# EAGLE library part 7414 (library Optical_Spark_Parts)
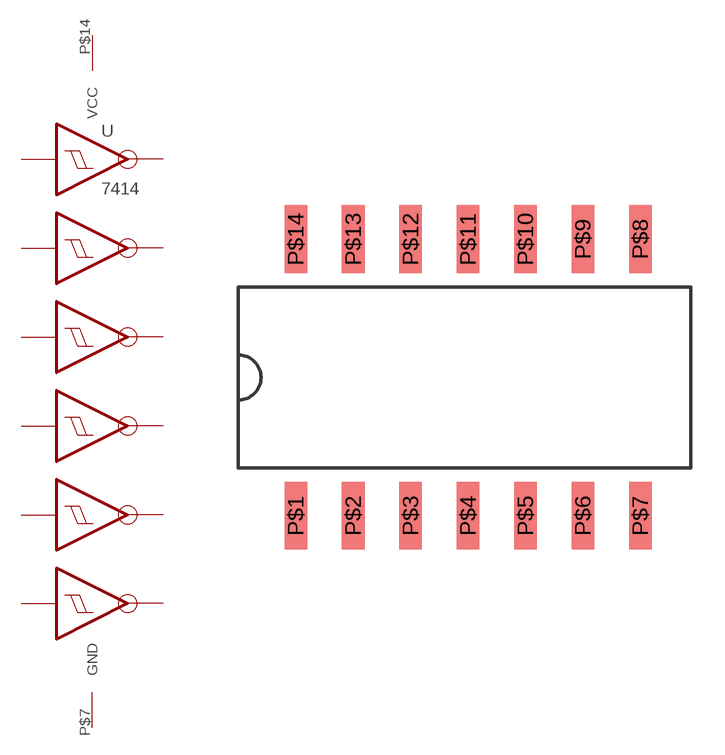
[diagram p0: symbol with the pads of DIP14_SMD; footprint DIP14_SMD]

Designator prefix -

## 7414  [DIP14_SMD]
P$1  I1
P$2  O1
P$3  I2
P$4  O2
P$5  I3
P$6  O3
P$7  GND
P$8  O4
P$9  I4
P$10  O5
P$11  I5
P$12  O6
P$13  I6
P$14  VCC

## Footprint DIP14_SMD (pad centres in mm)
smd 1 x 3: P$1 2.54,-6.12; P$2 5.08,-6.12; P$3 7.62,-6.12; P$4 10.16,-6.12; P$5 12.7,-6.12; P$6 15.24,-6.12; P$7 17.78,-6.12; P$8 17.78,6.12; P$9 15.24,6.12; P$10 12.7,6.12; P$11 10.16,6.12; P$12 7.62,6.12; P$13 5.08,6.12; P$14 2.54,6.12